# EAGLE library part 20-PIN-JTAG (library aerial)
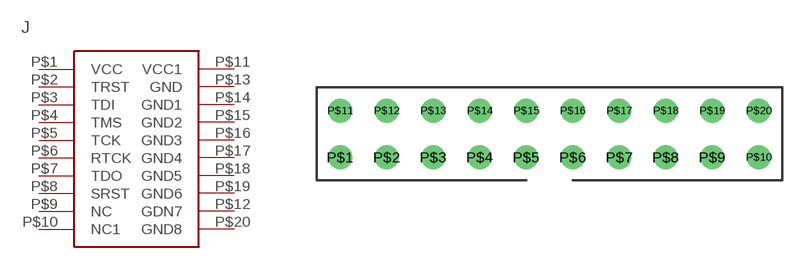
[diagram p5: symbol with the pads of 20-PIN-100MIL-JTAG; footprint 20-PIN-100MIL-JTAG]

Designator prefix J

## 20-PIN-JTAG  [20-PIN-100MIL-JTAG]
P$1  VCC
P$2  TRST
P$3  TDI
P$4  TMS
P$5  TCK
P$6  RTCK
P$7  TDO
P$8  SRST
P$9  NC
P$10  NC1
P$11  VCC1
P$12  GDN7
P$13  GND
P$14  GND1
P$15  GND2
P$16  GND3
P$17  GND4
P$18  GND5
P$19  GND6
P$20  GND8

## Footprint 20-PIN-100MIL-JTAG (pad centres in mm)
drill 0.8: P$1 0,0; P$2 2.54,0; P$3 5.08,0; P$4 7.62,0; P$5 10.16,0; P$6 12.7,0; P$7 15.24,0; P$8 17.78,0; P$9 20.32,0; P$10 22.86,0; P$11 0,2.54; P$12 2.54,2.54; P$13 5.08,2.54; P$14 7.62,2.54; P$15 10.16,2.54; P$16 12.7,2.54; P$17 15.24,2.54; P$18 17.78,2.54; P$19 20.32,2.54; P$20 22.86,2.54